# EAGLE library part ICSP-CON (library arno)
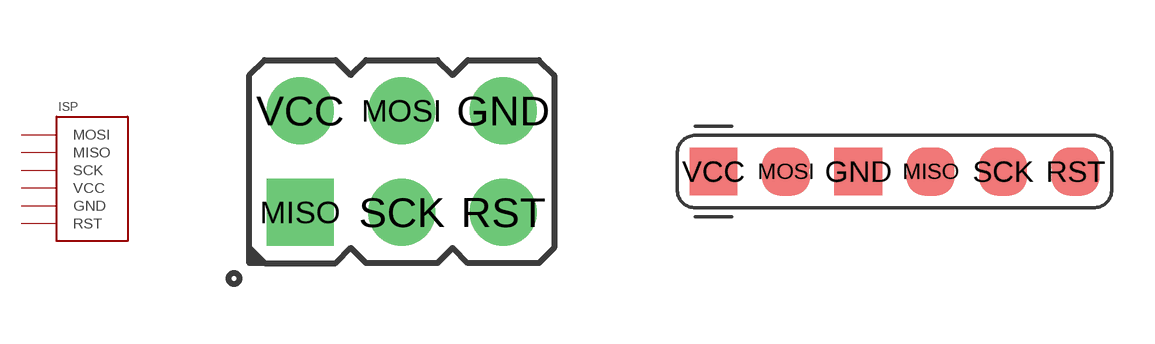
[diagram p6: symbol with the pads of ICSP-HEADER; footprints ICSP-HEADER, ICSP-PADS]

Designator prefix ISP

## ICSP-CON-HDR-PINS  [ICSP-HEADER]
GND  GND
MISO  MISO
MOSI  MOSI
RST  RST
SCK  SCK
VCC  VCC

## ICSP-CON-PADS  [ICSP-PADS]
Pads as for ICSP-HEADER

## Footprint ICSP-HEADER (pad centres in mm)
drill 0.914 pad 1.676: GND 2.54,1.27; MOSI 0,1.27; RST 2.54,-1.27; SCK 0,-1.27; VCC -2.54,1.27
drill 0.914 pad 1.676 square: MISO -2.54,-1.27

## Footprint ICSP-PADS (pad centres in mm)
smd 1.676 x 1.676: GND -1.27,0; MISO 1.27,0; MOSI -3.81,0; RST 6.35,0; SCK 3.81,0; VCC -6.35,0